# Altium schematic symbol library Main.SchLib: 23 symbols
Pins are listed as number, name and electrical type; pins without a type are passive.

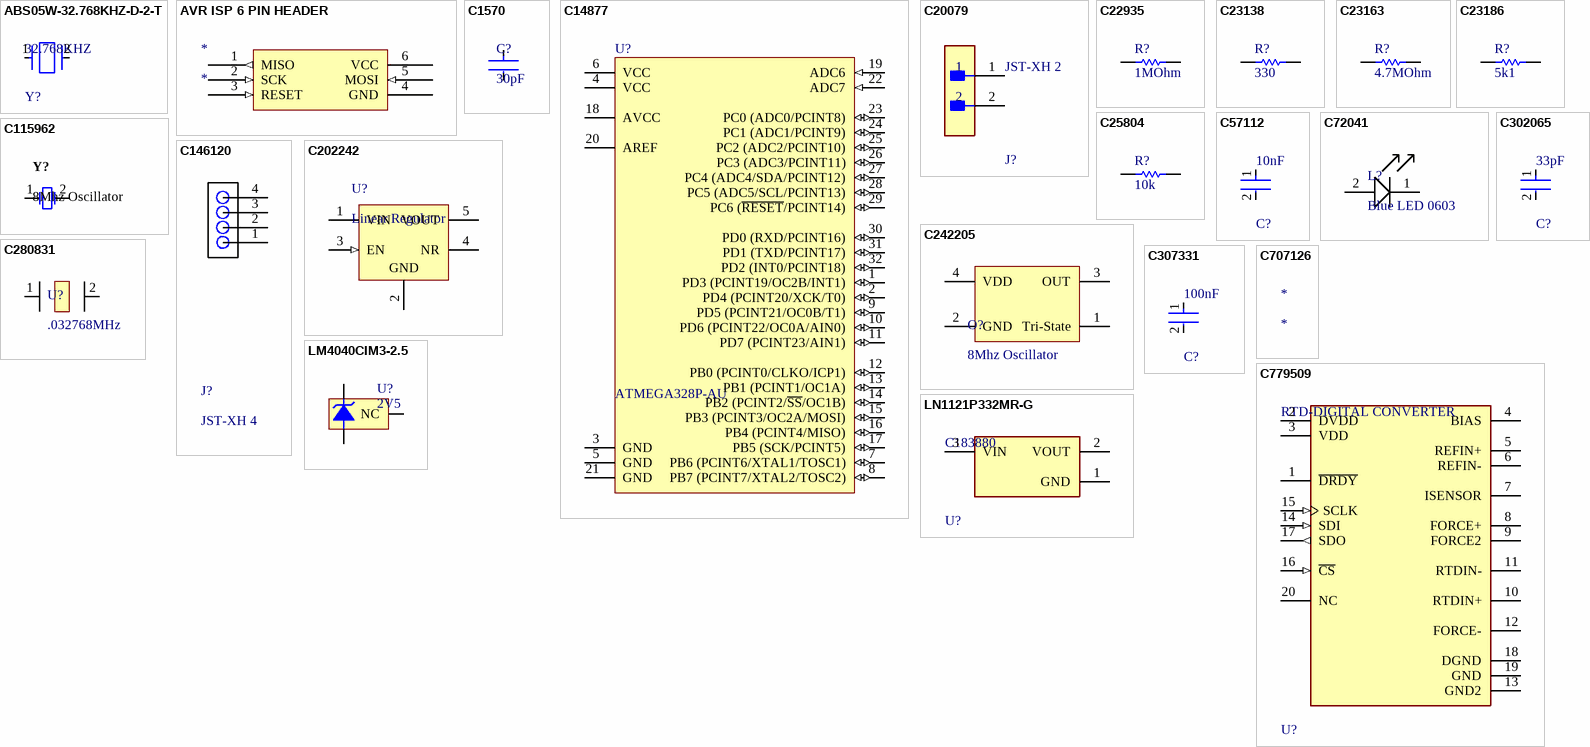
[diagram p0: symbols ABS05W-32.768KHZ-D-2-T to LN1121P332MR-G]

## ABS05W-32.768KHZ-D-2-T
designator Y?, comment 32.768KHZ
CRYSTAL 32.768KHZ 4PF SMD; Manufacturer Part Number: ABS05W-32.768KHZ-D-2-T; Manufacturer: Abracon LLC; Esr: 70kΩ; Tolerance: 20ppm; Digikey Description: CRYSTAL 32.768KHZ 4PF SMD; Series: ABS05W; Octopart: https://octopart.com/abs05w-32.768khz-d-2-t-abracon-89698685; Temperature Range High: +85°C; Lead Free: Yes; ComponentLink2URL: https://abracon.com/Resonators/ABS05W.pdf; Category: Crys; ComponentLink2Description: Datasheet; Frequency: 32.768kHz; Device Class L1: Passive Components; Device Class L3: Crystals; Device Class L2: Crystals / Oscillators; Height: 0.5mm; Package: ABS05W; Temperature Range Low: -40°C; RoHS: TRUE; Automotive: No; Load Capacitance: 4pF; Temperature: -40°C to +85°C; Supplier 1: RSComponents; Supplier Part Number 1: 1741836
footprint FP-ABS05W-MFG
pins: 1, 2

## AVR ISP 6 PIN HEADER
designator *
footprint AVR ISP 6 PIN HEADER
pins: 1 MISO (out), 2 SCK (in), 3 RESET (in), 4 GND (power), 5 MOSI (in), 6 VCC (power)

## C1570
designator C?, comment 30pF
footprint CAPC1005X06L (Chip Capacitor, 2-Leads, Body 1.00x0.50mm, IPC High Density)
pins: 1, 2

## C14877
designator U?, comment ATMEGA328P-AU
8-bit AVR Microcontroller, 32KB Flash, 1KB EEPROM, 2KB SRAM, 32-pin TQFP, Industrial Grade (-40°C to 85°C); PackageDescription: 32-Lead, 7x7x1.0 mm Body, 0.8mm Lead Pitch, Thin Profile Plastic Quad Flat Package (TQFP); DatasheetVersion: revD, May-2011; RevisionNote: DatasheetVersion & PackageVersion updated. URLs added.; ComponentLink1URL: http://www.atmel.com/; ComponentLink2Description: ATmega48A/48PA/88A/88PA/168A/168PA/328/328P Datasheet; Code_JEDEC: MS-026-ABA; ComponentLink1Description: Manufacturer URL; PackageReference: 32A; ComponentLink3Description: ATmega48A/48PA/88A/88PA/168A/168PA/328/328P Summary; ComponentLink2URL: http://www.atmel.com/dyn/resources/prod_documents/doc8271.pdf; PackageVersion: revC, Oct-2010; ComponentLink3URL: http://www.atmel.com/dyn/resources/prod_documents/8271S.pdf; Supplier 1: RSComponents; Supplier Part Number 1: 1310271
footprint 32A_L (Thin QFP, 32-Leads, Body 7x7mm, Pitch 0.8mm, IPC High Density)
pins: 1 PD3 (PCINT19/OC2B/INT1) (io), 2 PD4 (PCINT20/XCK/T0) (io), 3 GND (power), 4 VCC (power), 5 GND (power), 6 VCC (power), 7 PB6 (PCINT6/XTAL1/TOSC1) (io), 8 PB7 (PCINT7/XTAL2/TOSC2) (io), 9 PD5 (PCINT21/OC0B/T1) (io), 10 PD6 (PCINT22/OC0A/AIN0) (io), 11 PD7 (PCINT23/AIN1) (io), 12 PB0 (PCINT0/CLKO/ICP1) (io), 13 PB1 (PCINT1/OC1A) (io), 14 PB2 (PCINT2/~{SS}/OC1B) (io), 15 PB3 (PCINT3/OC2A/MOSI) (io), 16 PB4 (PCINT4/MISO) (io), 17 PB5 (SCK/PCINT5) (io), 18 AVCC (power), 19 ADC6 (in), 20 AREF, 21 GND (power), 22 ADC7 (in), 23 PC0 (ADC0/PCINT8) (io), 24 PC1 (ADC1/PCINT9) (io), 25 PC2 (ADC2/PCINT10) (io), 26 PC3 (ADC3/PCINT11) (io), 27 PC4 (ADC4/SDA/PCINT12) (io), 28 PC5 (ADC5/SCL/PCINT13) (io), 29 PC6 (~{RESET}/PCINT14) (io), 30 PD0 (RXD/PCINT16) (io), 31 PD1 (TXD/PCINT17) (io), 32 PD2 (INT0/PCINT18) (io)

## C20079
designator J?, comment JST-XH 2
CONN HEADER VERT 2POS 2.5MM; Current Rating: 3A; Voltage Rating: 250V; Number of Contacts: 2; Contact Resistance: 20mR; Wire/Cable Gauge: 22AWG; Insulation Resistance: 1GR; Connector Type: Male Pin; Packaging: Bulk; Contact Material: Brass; Lead Free: Lead Free; Orientation: Straight; Contact Plating: Tin; Max Current Rating: 3A; Termination: Solder; Fastening Type: Detent; Depth: 5.75mm; Housing Material: Polyamide; REACH SVHC: No SVHC; Series: XH; Voltage Rating (AC): 250V; Number of Positions: 2; Color: Natural; Contact Type: Male Pin; Max Voltage Rating (DC): 250V; Pitch: 2.5mm; Lead Pitch: 2.5mm; Mount: Through Hole; Max Operating Temperature: 85°C; Length: 7.4mm; Max Voltage Rating (AC): 250V; Min Operating Temperature: -25°C; Number of Rows: 1; Housing Color: White; Supplier 1: RSComponents; Supplier Part Number 1: 8201554
footprint FP-B2B-XH-A_LF_SN-MFG
pins: 1, 2

## C22935
designator R?, comment 1MOhm
Manufacturer: Panasonic; Part Number: ERJ1GNF1004C
footprint RESC1608X06L (Chip Resistor, 2-Leads, Body 1.60x0.85mm, IPC High Density)
pins: 1, 2
1 alternate drawing of the same symbol

## C23138
designator R?, comment 330
Manufacturer: Panasonic; Part Number: ERJ1GNF1004C
footprint RESC1608X06L (Chip Resistor, 2-Leads, Body 1.60x0.85mm, IPC High Density)
pins: 1, 2
1 alternate drawing of the same symbol

## C23163
designator R?, comment 4.7MOhm
Manufacturer: Panasonic; Part Number: ERJ-3GEYJ475V
footprint RESC1608X06L (Chip Resistor, 2-Leads, Body 1.60x0.85mm, IPC High Density)
pins: 1, 2
1 alternate drawing of the same symbol

## C23186
designator R?, comment 5k1
Part Number: ERJ-3EKF5101V; Manufacturer: Panasonic
footprint RESC1608X06L (Chip Resistor, 2-Leads, Body 1.60x0.85mm, IPC High Density)
pins: 1, 2
1 alternate drawing of the same symbol

## C25804
designator R?, comment 10k
Part Number: ERJ-3EKF5101V; Manufacturer: Panasonic
footprint RESC1608X06L (Chip Resistor, 2-Leads, Body 1.60x0.85mm, IPC High Density)
pins: 1, 2
1 alternate drawing of the same symbol

## C57112
designator C?, comment 10nF
Capacitance: 100nF; Tolerance: 10%; Voltage Rating (DC): 25V; Dielectric: X8R; Case/Package: 0603; Length: 1.6mm; Packaging: Tape and Reel; Depth: 0.8mm; Lead Free: Lead Free; Max Operating Temperature: 150°C; Min Operating Temperature: -55°C; Supplier 1: Digi-Key
footprint FP-GCM188-0_1-IPC_C
pins: 1, 2

## C72041
designator L?, comment Blue LED 0603
Blue 465~475nm 0603 Light Emitting Diodes (LED) ROHS
footprint C72041
pins: 1 3, 2

## C115962
designator Y?, comment 8Mhz Oscillator
Resistance Weld Crystal, 8 MHz, +/- 30 ppm, -20 to 70 degC, 2-Pin SMD, RoHS, Tape and Reel; Manufacturer: FOX Electronics; Series Resistance: 80Ohm; Load Capacitance: 20pF; Tolerance: 50ppm; Frequency Tolerance: 30ppm; Datasheet URL: http://www.foxonline.com/pdfs/hc49sdlf.pdf; Package Reference: HC49SDLF; Height: 4.5mm; Mount: SurfaceMount; Packaging: TapeandReel; Length: 11.7mm; Termination: SMD/SMT; Number of Pins: 2; Depth: 5mm; Frequency: 8MHz; Min Operating Temperature: -20degC; Package Quantity: 1000; RoHSCompliant: True; Lead Free: LeadFree; Width: 5mm; Case/Package: SMD/SMT; Manufacturer URL: http://www.foxonline.com/; Max Operating Temperature: 70degC; REACH SVHC: NoSVHC; Datasheet Version: 42064.0; Package Description: 2-Pin Surface Mount Device, Body 5 x 11.7 mm; Frequency Stability: 50ppm; ESR (Equivalent Series Resistance): 80Ohm; Radiation Hardening: No
footprint C115962
pins: 1, 2

## C146120
designator J?, comment JST-XH 4
footprint C146120
pins: 1, 2, 3, 4

## C202242
designator U?, comment Linear Regulator
Single Output Fast Transient Response LDO, 250 mA, Fixed 3.3 V Output, 1.8 to 12 V Input, 5-pin SOT-23 (DBV), -55 to 125 degC, Green (RoHS & no Sb/Br); Manufacturer: Texas Instruments; PartNumber: REG102NA-3.3/3K; Vin(Max)(V): 12; Accuracy(%): 1.5; Vin(Min)(V): 1.8; Vout Adj(Min)(V): 3.3; Iout(Max)(A): 0.25; Vdo(Typ)(mV): 150; SubFamily: Single Channel LDO; Iq(Typ)(mA): 0.4; DatasheetVersion: SBVS024F; PackageDescription: 5-Pin Plastic Small Outline, Body 1.60 Ãƒâ€” 2.90 mm, Pitch 0.95 mm; Code_JEDEC: MO-178; PackageReference: DBV0005A; PackageVersion: 4073253-4/K; Fixed Output Options(V): 3.3; Mounting Technology: Surface Mount; ComponentLink3Description: Package Specification; ComponentLink2Description: Datasheet; Vout Adj(Max)(V): 3.3; ComponentLink1URL: http://www.ti.com/; ComponentLink3URL: http://www.ti.com/litv/pdf/mpds018i; Eco-Plan: Green (RoHS & no Sb/Br); ComponentLink1Description: Manufacturer URL; ComponentLink2URL: http://www.ti.com/general/docs/lit/getliterature.tsp?genericPartNumber=REG102-33&fileType=pdf
footprint DBV0005A_L (SOT23, 5-Leads, Body 3.05x1.75mm, Pitch 0.95mm, IPC High Density)
pins: 1 VIN (power), 2 GND (power), 3 EN (in), 4 NR, 5 VOUT (power)

## C242205
designator O?, comment 8Mhz Oscillator
footprint C242205
pins: 1 Tri-State, 2 GND, 3 OUT, 4 VDD

## C280831
designator U?, comment .032768MHz
footprint C280831
pins: 1 0, 2 1

## C302065
designator C?, comment 33pF
Capacitance: 100nF; Tolerance: 10%; Voltage Rating (DC): 25V; Dielectric: X8R; Case/Package: 0603; Length: 1.6mm; Packaging: Tape and Reel; Depth: 0.8mm; Lead Free: Lead Free; Max Operating Temperature: 150°C; Min Operating Temperature: -55°C; Supplier 1: Digi-Key
footprint FP-GCM188-0_1-IPC_C
pins: 1, 2

## C307331
designator C?, comment 100nF
Tolerance: 10%; Voltage Rating (DC): 25V; Dielectric: X8R; Capacitance: 100nF; Case/Package: 0603; Length: 1.6mm; Packaging: Tape and Reel; Depth: 0.8mm; Lead Free: Lead Free; Max Operating Temperature: 150°C; Min Operating Temperature: -55°C; Supplier 1: Digi-Key
footprint FP-GCM188-0_1-IPC_C
pins: 1, 2

## C707126
designator *

## C779509
designator U?, comment RTD-DIGITAL CONVERTER
IC RTD TO DIGITAL CONVERT 20SSOP; Output Type: SPI; Min Operating Temperature: -40°C; Packaging: Tape and Reel; Mount: Surface Mount; Case/Package: SSOP; Max Operating Temperature: 125°C
footprint FP-A20-1-IPC_C
pins: 1 ~{DRDY}, 2 DVDD (power), 3 VDD (power), 4 BIAS, 5 REFIN+, 6 REFIN-, 7 ISENSOR, 8 FORCE+, 9 FORCE2, 10 RTDIN+, 11 RTDIN-, 12 FORCE-, 13 GND2 (power), 14 SDI (in), 15 SCLK (in), 16 ~{CS} (in), 17 SDO (out), 18 DGND (power), 19 GND (power), 20 NC

## LM4040CIM3-2.5
designator U?, comment 2V5
Precision Micropower Shunt Voltage Reference, 3-pin SOT-23; Manufacturer: Texas Instruments; PackageTopMarking: R2C*XTT; CompType: Voltage Reference IC; PowerWise: N; RevisionNote: Component URLs added; PinCount: 3; PackageDescription: Molded SOT-23, .115 x .051 x .037in Body, 3 Lead, .075 in Pitch; ComponentLink1URL: http://www.ti.com/general/docs/lit/getliterature.tsp?genericPartNumber=LM4040-N&fileType=pdf; DatasheetVersion: Apr-2005; PackageReference: DBZ0003A; PackageVersion: revB, Mar-2003; ComponentLink1Description: Datasheet URL; RoHS: N; Supplier 1: Digi-Key; Supplier Part Number 1: LM4040CIM3-2.5/NOPBCT-ND
footprint DBZ0003A_N (SOT23, 3-Leads, Body 3.04x1.4mm, Pitch 0.95mm, IPC Medium Density)
pins: 1 +V, 2 -V, 3 NC

## LN1121P332MR-G
designator U?, comment C183880
6V - - - Fixed 3.3V SOT-23-3L Linear Voltage Regulators (LDO) ROHS; Manufacturer Part Number: AP2120N-3.3TRG1; Manufacturer: Diodes Inc.; Min Supply Voltage: 2V; Standoff Height: 0.013mm; Max Junction Temp: +85°C; Accuracy Percentage: 2%; Nominal Supply Current: 25uA; Dropout Voltage: 300mV; Output Current: 150mA; Number Of Outputs: 1; Output Voltage: 3.3V; Footprint Url: https://www.diodes.com/assets/Package-Files/SOT23.pdf; Category: IC; ComponentLink2Description: Datasheet; Device Class L1: Integrated Circuits (ICs); Octopart: https://octopart.com/ap2120n-3.3trg1-diodes+inc.-30954573; Temperature Range Low: -40°C; Temperature: -40°C to +85°C; Temperature Range High: +85°C; Package: SOT23; Digikey Description: IC REG LINEAR 3.3V 150MA SOT23; Output Type: Fixed; Height: 1.1mm; Mouser Description: AP2120 Series 3.3 V 0.15 A Surface Mount CMOS LDO Regulator - SOT23; RoHS: TRUE; ComponentLink2URL: https://www.diodes.com/assets/Package-Files/SOT23.pdf; Max Supply Voltage: 6V; Device Class L2: Power Management ICs; Device Class L3: Voltage Regulators - Linear; Ipc Land Pattern Name: SOT92P240X102-3; Lead Free: Yes; Automotive: No
footprint FP-SOT23-IPC_C
pins: 1 GND (power), 2 VOUT (power), 3 VIN (power)